# EAGLE library part L4960 (library andereBauteile)
Schaltregler L4960 max. Ausgangsleistung: 2,5 A max. Eingangsspannung: 46 V
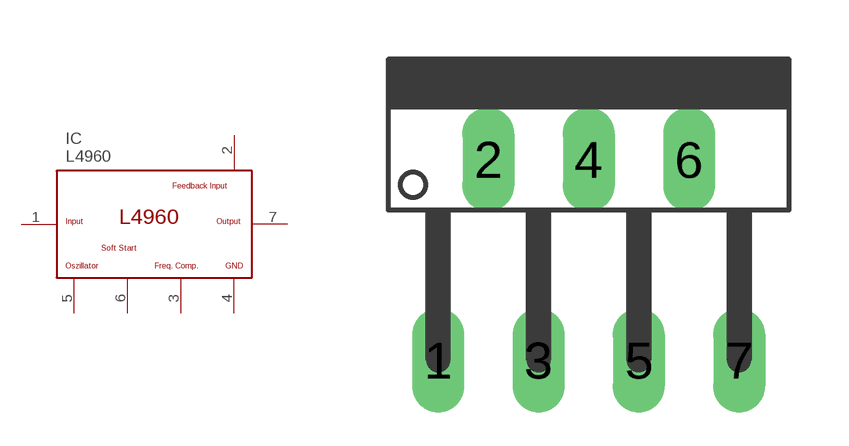
[diagram p12: symbol with the pads of HEPTAWATT-7; footprint HEPTAWATT-7]

Designator prefix IC

## L4960  [HEPTAWATT-7]
1  INPUT
2  FEEDBACK_INPUT
3  FREQ_COMP
4  GND
5  OSZILLATOR
6  SOFT_START
7  OUTPUT

## Footprint HEPTAWATT-7 (pad centres in mm)
Heptawatt Vertikal
drill 0.813 long: 1 -3.81,-2.54; 2 -2.54,2.54; 3 -1.27,-2.54; 4 0,2.54; 5 1.27,-2.54; 6 2.54,2.54; 7 3.81,-2.54